# Altium integrated library DS02C-254-1L-04BE.IntLib: 1 symbol
Pins are listed as number, name and electrical type; pins without a type are passive.

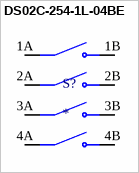
[diagram p0: symbol DS02C-254-1L-04BE]

## DS02C-254-1L-04BE
designator S?
4 Position, Through Hole, 2.54 mm Pitch, Raised Piano Slide Actuator, Convex Bottom, Long Pin, DIP Switch; MF: Same Sky; MP: DS02C-254-1L-04BE; SnapEDA_Link: https://www.snapeda.com/parts/DS02C-254-1L-04BE/Same+Sky/view-part/?ref=snap; Package: None; Value: *; Check_prices: https://www.snapeda.com/parts/DS02C-254-1L-04BE/Same+Sky/view-part/?ref=eda
footprint SW_DS02C-254-1L-04BE
pins: 1A COM1, 1B NO1, 2A COM2, 2B NO2, 3A COM3, 3B NO3, 4A COM4, 4B NO4